# Altium integrated library LT Power Mgt DC-DC Converter.IntLib: 19 symbols
Pins are listed as number, name and electrical type; pins without a type are passive.

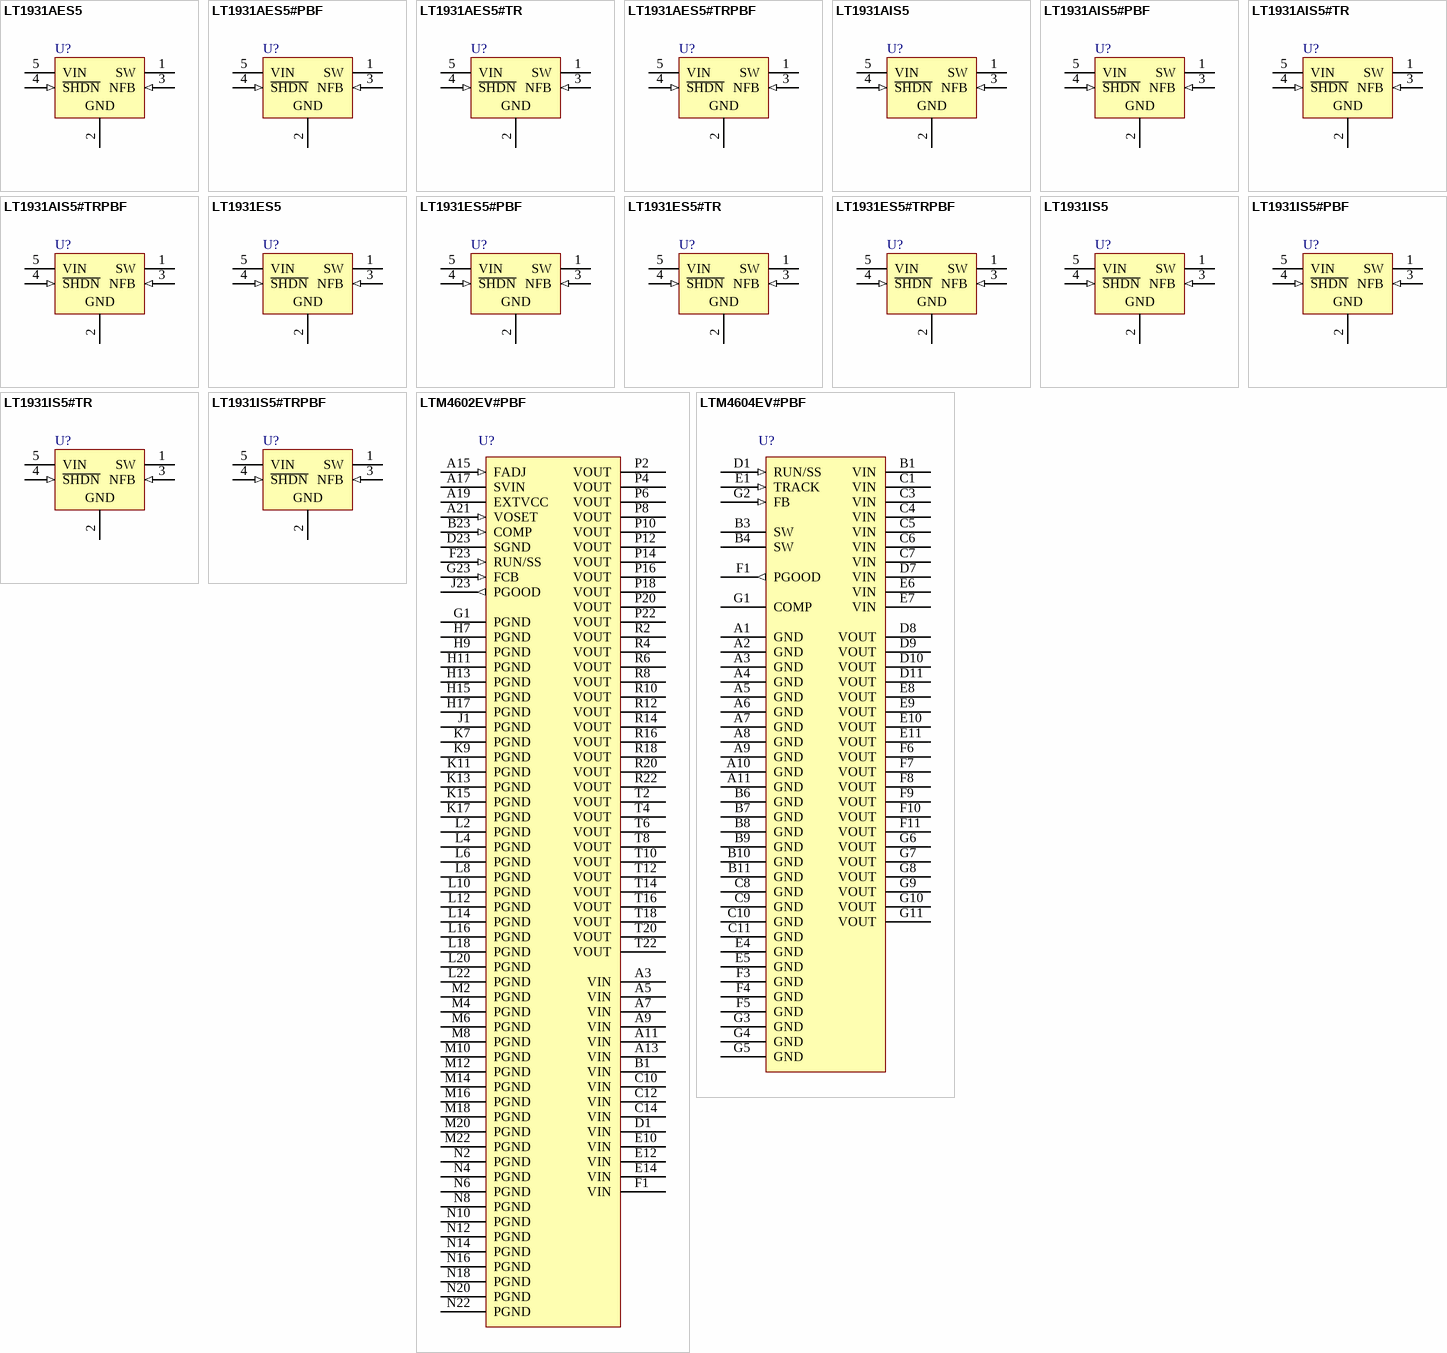
[diagram p0: symbols LT1931AES5 to LTM4604EV#PBF]

## LT1931AES5
designator U?
2.2MHz Inverting Current Mode DC/DC Converter; Note: 1639; Published: 6-Jun-2005; LatestRevisionDate: 29-May-2009; LatestRevisionNote: IPC-7351 Footprint Added.; DatasheetVersion: Jun-2001; PackageVersion: 2005; PackageReference: S5-T; Publisher: Altium Limited; PackageDescription: 5-Pin SOT-23 Package 0.95 mm Pitch, 2.8 mm Lead Span; Code_IPC: SOT23-5; ComponentLink1Description: Manufacturer Link; ComponentLink1URL: http://www.linear.com/; ComponentLink2Description: Datasheet; ComponentLink2URL: http://www.linear.com/pc/downloadDocument.do?navId=H0,C1,C1003,C1042,P1863,D3921
footprint S5-T_N (SOT23, 5-Leads, Body 3x1.6mm, Pitch 0.95mm, Lead Span 2.8mm, IPC Medium Density)
footprint S5-T_L (SOT23, 5-Leads, Body 3x1.6mm, Pitch 0.95mm, Lead Span 2.8mm, IPC High Density)
footprint S5-T_M (SOT23, 5-Leads, Body 3x1.6mm, Pitch 0.95mm, Lead Span 2.8mm, IPC Low Density)
pins: 1 SW "Switch", 2 GND (power) "Ground", 3 NFB (in) "Feedback", 4 ~{SHDN} (in) "Shutdown", 5 VIN (power) "Input Supply"

## LT1931AES5#PBF
designator U?
2.2MHz Inverting Current Mode DC/DC Converter; Note: 1641; Published: 6-Jun-2005; LatestRevisionDate: 29-May-2009; LatestRevisionNote: IPC-7351 Footprint Added.; DatasheetVersion: Jun-2001; PackageVersion: 2005; PackageReference: S5-T; Publisher: Altium Limited; PackageDescription: 5-Pin SOT-23 Package 0.95 mm Pitch, 2.8 mm Lead Span; Code_IPC: SOT23-5; ComponentLink1Description: Manufacturer Link; ComponentLink1URL: http://www.linear.com/; ComponentLink2Description: Datasheet; ComponentLink2URL: http://www.linear.com/pc/downloadDocument.do?navId=H0,C1,C1003,C1042,P1863,D3921
footprint S5-T_N (SOT23, 5-Leads, Body 3x1.6mm, Pitch 0.95mm, Lead Span 2.8mm, IPC Medium Density)
footprint S5-T_L (SOT23, 5-Leads, Body 3x1.6mm, Pitch 0.95mm, Lead Span 2.8mm, IPC High Density)
footprint S5-T_M (SOT23, 5-Leads, Body 3x1.6mm, Pitch 0.95mm, Lead Span 2.8mm, IPC Low Density)
pins: 1 SW "Switch", 2 GND (power) "Ground", 3 NFB (in) "Feedback", 4 ~{SHDN} (in) "Shutdown", 5 VIN (power) "Input Supply"

## LT1931AES5#TR
designator U?
2.2MHz Inverting Current Mode DC/DC Converter; Note: 1640; Published: 6-Jun-2005; LatestRevisionDate: 29-May-2009; LatestRevisionNote: IPC-7351 Footprint Added.; DatasheetVersion: Jun-2001; PackageVersion: 2005; PackageReference: S5-T; Publisher: Altium Limited; PackageDescription: 5-Pin SOT-23 Package 0.95 mm Pitch, 2.8 mm Lead Span; Code_IPC: SOT23-5; ComponentLink1Description: Manufacturer Link; ComponentLink1URL: http://www.linear.com/; ComponentLink2Description: Datasheet; ComponentLink2URL: http://www.linear.com/pc/downloadDocument.do?navId=H0,C1,C1003,C1042,P1863,D3921
footprint S5-T_N (SOT23, 5-Leads, Body 3x1.6mm, Pitch 0.95mm, Lead Span 2.8mm, IPC Medium Density)
footprint S5-T_L (SOT23, 5-Leads, Body 3x1.6mm, Pitch 0.95mm, Lead Span 2.8mm, IPC High Density)
footprint S5-T_M (SOT23, 5-Leads, Body 3x1.6mm, Pitch 0.95mm, Lead Span 2.8mm, IPC Low Density)
pins: 1 SW "Switch", 2 GND (power) "Ground", 3 NFB (in) "Feedback", 4 ~{SHDN} (in) "Shutdown", 5 VIN (power) "Input Supply"

## LT1931AES5#TRPBF
designator U?
2.2MHz Inverting Current Mode DC/DC Converter; Note: 1642; Published: 6-Jun-2005; LatestRevisionDate: 29-May-2009; LatestRevisionNote: IPC-7351 Footprint Added.; DatasheetVersion: Jun-2001; PackageVersion: 2005; PackageReference: S5-T; Publisher: Altium Limited; PackageDescription: 5-Pin SOT-23 Package 0.95 mm Pitch, 2.8 mm Lead Span; Code_IPC: SOT23-5; ComponentLink1Description: Manufacturer Link; ComponentLink1URL: http://www.linear.com/; ComponentLink2Description: Datasheet; ComponentLink2URL: http://www.linear.com/pc/downloadDocument.do?navId=H0,C1,C1003,C1042,P1863,D3921
footprint S5-T_N (SOT23, 5-Leads, Body 3x1.6mm, Pitch 0.95mm, Lead Span 2.8mm, IPC Medium Density)
footprint S5-T_L (SOT23, 5-Leads, Body 3x1.6mm, Pitch 0.95mm, Lead Span 2.8mm, IPC High Density)
footprint S5-T_M (SOT23, 5-Leads, Body 3x1.6mm, Pitch 0.95mm, Lead Span 2.8mm, IPC Low Density)
pins: 1 SW "Switch", 2 GND (power) "Ground", 3 NFB (in) "Feedback", 4 ~{SHDN} (in) "Shutdown", 5 VIN (power) "Input Supply"

## LT1931AIS5
designator U?
2.2MHz Inverting Current Mode DC/DC Converter; Note: 1643; Published: 6-Jun-2005; LatestRevisionDate: 29-May-2009; LatestRevisionNote: IPC-7351 Footprint Added.; DatasheetVersion: Jun-2001; PackageVersion: 2005; PackageReference: S5-T; Publisher: Altium Limited; PackageDescription: 5-Pin SOT-23 Package 0.95 mm Pitch, 2.8 mm Lead Span; Code_IPC: SOT23-5; ComponentLink1Description: Manufacturer Link; ComponentLink1URL: http://www.linear.com/; ComponentLink2Description: Datasheet; ComponentLink2URL: http://www.linear.com/pc/downloadDocument.do?navId=H0,C1,C1003,C1042,P1863,D3921
footprint S5-T_N (SOT23, 5-Leads, Body 3x1.6mm, Pitch 0.95mm, Lead Span 2.8mm, IPC Medium Density)
footprint S5-T_L (SOT23, 5-Leads, Body 3x1.6mm, Pitch 0.95mm, Lead Span 2.8mm, IPC High Density)
footprint S5-T_M (SOT23, 5-Leads, Body 3x1.6mm, Pitch 0.95mm, Lead Span 2.8mm, IPC Low Density)
pins: 1 SW "Switch", 2 GND (power) "Ground", 3 NFB (in) "Feedback", 4 ~{SHDN} (in) "Shutdown", 5 VIN (power) "Input Supply"

## LT1931AIS5#PBF
designator U?
2.2MHz Inverting Current Mode DC/DC Converter; Note: 1645; Published: 6-Jun-2005; LatestRevisionDate: 29-May-2009; LatestRevisionNote: IPC-7351 Footprint Added.; DatasheetVersion: Jun-2001; PackageVersion: 2005; PackageReference: S5-T; Publisher: Altium Limited; PackageDescription: 5-Pin SOT-23 Package 0.95 mm Pitch, 2.8 mm Lead Span; Code_IPC: SOT23-5; ComponentLink1Description: Manufacturer Link; ComponentLink1URL: http://www.linear.com/; ComponentLink2Description: Datasheet; ComponentLink2URL: http://www.linear.com/pc/downloadDocument.do?navId=H0,C1,C1003,C1042,P1863,D3921
footprint S5-T_N (SOT23, 5-Leads, Body 3x1.6mm, Pitch 0.95mm, Lead Span 2.8mm, IPC Medium Density)
footprint S5-T_L (SOT23, 5-Leads, Body 3x1.6mm, Pitch 0.95mm, Lead Span 2.8mm, IPC High Density)
footprint S5-T_M (SOT23, 5-Leads, Body 3x1.6mm, Pitch 0.95mm, Lead Span 2.8mm, IPC Low Density)
pins: 1 SW "Switch", 2 GND (power) "Ground", 3 NFB (in) "Feedback", 4 ~{SHDN} (in) "Shutdown", 5 VIN (power) "Input Supply"

## LT1931AIS5#TR
designator U?
2.2MHz Inverting Current Mode DC/DC Converter; Note: 1644; Published: 6-Jun-2005; LatestRevisionDate: 29-May-2009; LatestRevisionNote: IPC-7351 Footprint Added.; DatasheetVersion: Jun-2001; PackageVersion: 2005; PackageReference: S5-T; Publisher: Altium Limited; PackageDescription: 5-Pin SOT-23 Package 0.95 mm Pitch, 2.8 mm Lead Span; Code_IPC: SOT23-5; ComponentLink1Description: Manufacturer Link; ComponentLink1URL: http://www.linear.com/; ComponentLink2Description: Datasheet; ComponentLink2URL: http://www.linear.com/pc/downloadDocument.do?navId=H0,C1,C1003,C1042,P1863,D3921
footprint S5-T_N (SOT23, 5-Leads, Body 3x1.6mm, Pitch 0.95mm, Lead Span 2.8mm, IPC Medium Density)
footprint S5-T_L (SOT23, 5-Leads, Body 3x1.6mm, Pitch 0.95mm, Lead Span 2.8mm, IPC High Density)
footprint S5-T_M (SOT23, 5-Leads, Body 3x1.6mm, Pitch 0.95mm, Lead Span 2.8mm, IPC Low Density)
pins: 1 SW "Switch", 2 GND (power) "Ground", 3 NFB (in) "Feedback", 4 ~{SHDN} (in) "Shutdown", 5 VIN (power) "Input Supply"

## LT1931AIS5#TRPBF
designator U?
2.2MHz Inverting Current Mode DC/DC Converter; Note: 1646; Published: 6-Jun-2005; LatestRevisionDate: 29-May-2009; LatestRevisionNote: IPC-7351 Footprint Added.; DatasheetVersion: Jun-2001; PackageVersion: 2005; PackageReference: S5-T; Publisher: Altium Limited; PackageDescription: 5-Pin SOT-23 Package 0.95 mm Pitch, 2.8 mm Lead Span; Code_IPC: SOT23-5; ComponentLink1Description: Manufacturer Link; ComponentLink1URL: http://www.linear.com/; ComponentLink2Description: Datasheet; ComponentLink2URL: http://www.linear.com/pc/downloadDocument.do?navId=H0,C1,C1003,C1042,P1863,D3921
footprint S5-T_N (SOT23, 5-Leads, Body 3x1.6mm, Pitch 0.95mm, Lead Span 2.8mm, IPC Medium Density)
footprint S5-T_L (SOT23, 5-Leads, Body 3x1.6mm, Pitch 0.95mm, Lead Span 2.8mm, IPC High Density)
footprint S5-T_M (SOT23, 5-Leads, Body 3x1.6mm, Pitch 0.95mm, Lead Span 2.8mm, IPC Low Density)
pins: 1 SW "Switch", 2 GND (power) "Ground", 3 NFB (in) "Feedback", 4 ~{SHDN} (in) "Shutdown", 5 VIN (power) "Input Supply"

## LT1931ES5
designator U?
1.2MHz Inverting Current Mode DC/DC Converter; Note: 1631; Published: 6-Jun-2005; LatestRevisionDate: 29-May-2009; LatestRevisionNote: IPC-7351 Footprint Added.; DatasheetVersion: Jun-2001; PackageVersion: 2005; PackageReference: S5-T; Publisher: Altium Limited; PackageDescription: 5-Pin SOT-23 Package 0.95 mm Pitch, 2.8 mm Lead Span; Code_IPC: SOT23-5; ComponentLink1Description: Manufacturer Link; ComponentLink1URL: http://www.linear.com/; ComponentLink2Description: Datasheet; ComponentLink2URL: http://www.linear.com/pc/downloadDocument.do?navId=H0,C1,C1003,C1042,P1863,D3921
footprint S5-T_N (SOT23, 5-Leads, Body 3x1.6mm, Pitch 0.95mm, Lead Span 2.8mm, IPC Medium Density)
footprint S5-T_L (SOT23, 5-Leads, Body 3x1.6mm, Pitch 0.95mm, Lead Span 2.8mm, IPC High Density)
footprint S5-T_M (SOT23, 5-Leads, Body 3x1.6mm, Pitch 0.95mm, Lead Span 2.8mm, IPC Low Density)
pins: 1 SW "Switch", 2 GND (power) "Ground", 3 NFB (in) "Feedback", 4 ~{SHDN} (in) "Shutdown", 5 VIN (power) "Input Supply"

## LT1931ES5#PBF
designator U?
1.2MHz Inverting Current Mode DC/DC Converter; Note: 1633; Published: 6-Jun-2005; LatestRevisionDate: 29-May-2009; LatestRevisionNote: IPC-7351 Footprint Added.; DatasheetVersion: Jun-2001; PackageVersion: 2005; PackageReference: S5-T; Publisher: Altium Limited; PackageDescription: 5-Pin SOT-23 Package 0.95 mm Pitch, 2.8 mm Lead Span; Code_IPC: SOT23-5; ComponentLink1Description: Manufacturer Link; ComponentLink1URL: http://www.linear.com/; ComponentLink2Description: Datasheet; ComponentLink2URL: http://www.linear.com/pc/downloadDocument.do?navId=H0,C1,C1003,C1042,P1863,D3921
footprint S5-T_N (SOT23, 5-Leads, Body 3x1.6mm, Pitch 0.95mm, Lead Span 2.8mm, IPC Medium Density)
footprint S5-T_L (SOT23, 5-Leads, Body 3x1.6mm, Pitch 0.95mm, Lead Span 2.8mm, IPC High Density)
footprint S5-T_M (SOT23, 5-Leads, Body 3x1.6mm, Pitch 0.95mm, Lead Span 2.8mm, IPC Low Density)
pins: 1 SW "Switch", 2 GND (power) "Ground", 3 NFB (in) "Feedback", 4 ~{SHDN} (in) "Shutdown", 5 VIN (power) "Input Supply"

## LT1931ES5#TR
designator U?
1.2MHz Inverting Current Mode DC/DC Converter; Note: 1632; Published: 6-Jun-2005; LatestRevisionDate: 29-May-2009; LatestRevisionNote: IPC-7351 Footprint Added.; DatasheetVersion: Jun-2001; PackageVersion: 2005; PackageReference: S5-T; Publisher: Altium Limited; PackageDescription: 5-Pin SOT-23 Package 0.95 mm Pitch, 2.8 mm Lead Span; Code_IPC: SOT23-5; ComponentLink1Description: Manufacturer Link; ComponentLink1URL: http://www.linear.com/; ComponentLink2Description: Datasheet; ComponentLink2URL: http://www.linear.com/pc/downloadDocument.do?navId=H0,C1,C1003,C1042,P1863,D3921
footprint S5-T_N (SOT23, 5-Leads, Body 3x1.6mm, Pitch 0.95mm, Lead Span 2.8mm, IPC Medium Density)
footprint S5-T_L (SOT23, 5-Leads, Body 3x1.6mm, Pitch 0.95mm, Lead Span 2.8mm, IPC High Density)
footprint S5-T_M (SOT23, 5-Leads, Body 3x1.6mm, Pitch 0.95mm, Lead Span 2.8mm, IPC Low Density)
pins: 1 SW "Switch", 2 GND (power) "Ground", 3 NFB (in) "Feedback", 4 ~{SHDN} (in) "Shutdown", 5 VIN (power) "Input Supply"

## LT1931ES5#TRPBF
designator U?
1.2MHz Inverting Current Mode DC/DC Converter; Note: 1634; Published: 6-Jun-2005; LatestRevisionDate: 29-May-2009; LatestRevisionNote: IPC-7351 Footprint Added.; DatasheetVersion: Jun-2001; PackageVersion: 2005; PackageReference: S5-T; Publisher: Altium Limited; PackageDescription: 5-Pin SOT-23 Package 0.95 mm Pitch, 2.8 mm Lead Span; Code_IPC: SOT23-5; ComponentLink1Description: Manufacturer Link; ComponentLink1URL: http://www.linear.com/; ComponentLink2Description: Datasheet; ComponentLink2URL: http://www.linear.com/pc/downloadDocument.do?navId=H0,C1,C1003,C1042,P1863,D3921
footprint S5-T_N (SOT23, 5-Leads, Body 3x1.6mm, Pitch 0.95mm, Lead Span 2.8mm, IPC Medium Density)
footprint S5-T_L (SOT23, 5-Leads, Body 3x1.6mm, Pitch 0.95mm, Lead Span 2.8mm, IPC High Density)
footprint S5-T_M (SOT23, 5-Leads, Body 3x1.6mm, Pitch 0.95mm, Lead Span 2.8mm, IPC Low Density)
pins: 1 SW "Switch", 2 GND (power) "Ground", 3 NFB (in) "Feedback", 4 ~{SHDN} (in) "Shutdown", 5 VIN (power) "Input Supply"

## LT1931IS5
designator U?
1.2MHz Inverting Current Mode DC/DC Converter; Note: 1635; Published: 6-Jun-2005; LatestRevisionDate: 29-May-2009; LatestRevisionNote: IPC-7351 Footprint Added.; DatasheetVersion: Jun-2001; PackageVersion: 2005; PackageReference: S5-T; Publisher: Altium Limited; PackageDescription: 5-Pin SOT-23 Package 0.95 mm Pitch, 2.8 mm Lead Span; Code_IPC: SOT23-5; ComponentLink1Description: Manufacturer Link; ComponentLink1URL: http://www.linear.com/; ComponentLink2Description: Datasheet; ComponentLink2URL: http://www.linear.com/pc/downloadDocument.do?navId=H0,C1,C1003,C1042,P1863,D3921
footprint S5-T_N (SOT23, 5-Leads, Body 3x1.6mm, Pitch 0.95mm, Lead Span 2.8mm, IPC Medium Density)
footprint S5-T_L (SOT23, 5-Leads, Body 3x1.6mm, Pitch 0.95mm, Lead Span 2.8mm, IPC High Density)
footprint S5-T_M (SOT23, 5-Leads, Body 3x1.6mm, Pitch 0.95mm, Lead Span 2.8mm, IPC Low Density)
pins: 1 SW "Switch", 2 GND (power) "Ground", 3 NFB (in) "Feedback", 4 ~{SHDN} (in) "Shutdown", 5 VIN (power) "Input Supply"

## LT1931IS5#PBF
designator U?
1.2MHz Inverting Current Mode DC/DC Converter; Note: 1637; Published: 6-Jun-2005; LatestRevisionDate: 29-May-2009; LatestRevisionNote: IPC-7351 Footprint Added.; DatasheetVersion: Jun-2001; PackageVersion: 2005; PackageReference: S5-T; Publisher: Altium Limited; PackageDescription: 5-Pin SOT-23 Package 0.95 mm Pitch, 2.8 mm Lead Span; Code_IPC: SOT23-5; ComponentLink1Description: Manufacturer Link; ComponentLink1URL: http://www.linear.com/; ComponentLink2Description: Datasheet; ComponentLink2URL: http://www.linear.com/pc/downloadDocument.do?navId=H0,C1,C1003,C1042,P1863,D3921
footprint S5-T_N (SOT23, 5-Leads, Body 3x1.6mm, Pitch 0.95mm, Lead Span 2.8mm, IPC Medium Density)
footprint S5-T_L (SOT23, 5-Leads, Body 3x1.6mm, Pitch 0.95mm, Lead Span 2.8mm, IPC High Density)
footprint S5-T_M (SOT23, 5-Leads, Body 3x1.6mm, Pitch 0.95mm, Lead Span 2.8mm, IPC Low Density)
pins: 1 SW "Switch", 2 GND (power) "Ground", 3 NFB (in) "Feedback", 4 ~{SHDN} (in) "Shutdown", 5 VIN (power) "Input Supply"

## LT1931IS5#TR
designator U?
1.2MHz Inverting Current Mode DC/DC Converter; Note: 1636; Published: 6-Jun-2005; LatestRevisionDate: 29-May-2009; LatestRevisionNote: IPC-7351 Footprint Added.; DatasheetVersion: Jun-2001; PackageVersion: 2005; PackageReference: S5-T; Publisher: Altium Limited; PackageDescription: 5-Pin SOT-23 Package 0.95 mm Pitch, 2.8 mm Lead Span; Code_IPC: SOT23-5; ComponentLink1Description: Manufacturer Link; ComponentLink1URL: http://www.linear.com/; ComponentLink2Description: Datasheet; ComponentLink2URL: http://www.linear.com/pc/downloadDocument.do?navId=H0,C1,C1003,C1042,P1863,D3921
footprint S5-T_N (SOT23, 5-Leads, Body 3x1.6mm, Pitch 0.95mm, Lead Span 2.8mm, IPC Medium Density)
footprint S5-T_L (SOT23, 5-Leads, Body 3x1.6mm, Pitch 0.95mm, Lead Span 2.8mm, IPC High Density)
footprint S5-T_M (SOT23, 5-Leads, Body 3x1.6mm, Pitch 0.95mm, Lead Span 2.8mm, IPC Low Density)
pins: 1 SW "Switch", 2 GND (power) "Ground", 3 NFB (in) "Feedback", 4 ~{SHDN} (in) "Shutdown", 5 VIN (power) "Input Supply"

## LT1931IS5#TRPBF
designator U?
1.2MHz Inverting Current Mode DC/DC Converter; Note: 1638; Published: 6-Jun-2005; LatestRevisionDate: 29-May-2009; LatestRevisionNote: IPC-7351 Footprint Added.; DatasheetVersion: Jun-2001; PackageVersion: 2005; PackageReference: S5-T; Publisher: Altium Limited; PackageDescription: 5-Pin SOT-23 Package 0.95 mm Pitch, 2.8 mm Lead Span; Code_IPC: SOT23-5; ComponentLink1Description: Manufacturer Link; ComponentLink1URL: http://www.linear.com/; ComponentLink2Description: Datasheet; ComponentLink2URL: http://www.linear.com/pc/downloadDocument.do?navId=H0,C1,C1003,C1042,P1863,D3921
footprint S5-T_N (SOT23, 5-Leads, Body 3x1.6mm, Pitch 0.95mm, Lead Span 2.8mm, IPC Medium Density)
footprint S5-T_L (SOT23, 5-Leads, Body 3x1.6mm, Pitch 0.95mm, Lead Span 2.8mm, IPC High Density)
footprint S5-T_M (SOT23, 5-Leads, Body 3x1.6mm, Pitch 0.95mm, Lead Span 2.8mm, IPC Low Density)
pins: 1 SW "Switch", 2 GND (power) "Ground", 3 NFB (in) "Feedback", 4 ~{SHDN} (in) "Shutdown", 5 VIN (power) "Input Supply"

## LTM4602EV#PBF
designator U?
6A High Efficiency DC/DC µModule; Note: 1913; Published: 30-May-2008; DatasheetVersion: Aug-2007; PackageVersion: Mar-2006; PackageReference: LGA104; Publisher: Altium Limited; PackageDescription: 104-Pin LGA, 15 x 15 x 2.9 mm Body, 1.27 mm Pitch (LGA104); Code_JEDEC: MO-222; ComponentLink1Description: Manufacturer Link; ComponentLink1URL: http://www.linear.com/; ComponentLink2Description: Datasheet; ComponentLink2URL: http://www.linear.com/pc/downloadDocument.do?navId=H0,C1,C1003,C1424,P32715,D18139
footprint LGA104 (QFN, 104-Leads, Body 15x15mm, Pitch 1.27mm, Linear Technology Recommended)
pins: A3 VIN (power), A5 VIN (power), A7 VIN (power), A9 VIN (power), A11 VIN (power), A13 VIN (power), A15 FADJ (in), A17 SVIN (power), A19 EXTVCC (power), A21 VOSET (in), B1 VIN (power), B23 COMP (in), C10 VIN (power), C12 VIN (power), C14 VIN (power), D1 VIN (power), D23 SGND (power), E10 VIN (power), E12 VIN (power), E14 VIN (power), F1 VIN (power), F23 RUN/SS (in), G1 PGND (power), G23 FCB (in), H7 PGND (power), H9 PGND (power), H11 PGND (power), H13 PGND (power), H15 PGND (power), H17 PGND (power), J1 PGND (power), J23 PGOOD (out), K7 PGND (power), K9 PGND (power), K11 PGND (power), K13 PGND (power), K15 PGND (power), K17 PGND (power), L2 PGND (power), L4 PGND (power), L6 PGND (power), L8 PGND (power), L10 PGND (power), L12 PGND (power), L14 PGND (power), L16 PGND (power), L18 PGND (power), L20 PGND (power), L22 PGND (power), M2 PGND (power), M4 PGND (power), M6 PGND (power), M8 PGND (power), M10 PGND (power), M12 PGND (power), M14 PGND (power), M16 PGND (power), M18 PGND (power), M20 PGND (power), M22 PGND (power), N2 PGND (power), N4 PGND (power), N6 PGND (power), N8 PGND (power), N10 PGND (power), N12 PGND (power), N14 PGND (power), N16 PGND (power), N18 PGND (power), N20 PGND (power), N22 PGND (power), P2 VOUT (power), P4 VOUT (power), P6 VOUT (power), P8 VOUT (power), P10 VOUT (power), P12 VOUT (power), P14 VOUT (power), P16 VOUT (power), P18 VOUT (power), P20 VOUT (power), P22 VOUT (power), R2 VOUT (power), R4 VOUT (power), R6 VOUT (power), R8 VOUT (power), R10 VOUT (power), R12 VOUT (power), R14 VOUT (power), R16 VOUT (power), R18 VOUT (power), R20 VOUT (power), R22 VOUT (power), T2 VOUT (power), T4 VOUT (power), T6 VOUT (power), T8 VOUT (power), T10 VOUT (power), T12 VOUT (power), T14 VOUT (power), T16 VOUT (power), T18 VOUT (power), T20 VOUT (power), T22 VOUT (power)

## LTM4604EV#PBF
designator U?
Low Voltage, 4A DC/DC µModule with Tracking; Note: 1919; Published: 30-May-2008; DatasheetVersion: Aug-2007; PackageVersion: Rev A, Jun-2007; PackageReference: LGA66; Publisher: Altium Limited; PackageDescription: 66-Pin LGA, 15 x 9 x 2.4 mm Body, 1.27 mm Pitch (LGA66); Code_JEDEC: MO-222; ComponentLink1Description: Manufacturer Link; ComponentLink1URL: http://www.linear.com/; ComponentLink2Description: Datasheet; ComponentLink2URL: http://www.linear.com/pc/downloadDocument.do?navId=H0,C1,C1003,C1042,C1424,P37470,D25201
footprint LGA66 (QFN, 66-Leads, Body 15x9mm, Pitch 1.27mm, Linear Technology Recommended)
pins: A1 GND (power) "Power Ground", A2 GND (power) "Power Ground", A3 GND (power) "Power Ground", A4 GND (power) "Power Ground", A5 GND (power) "Power Ground", A6 GND (power) "Power Ground", A7 GND (power) "Power Ground", A8 GND (power) "Power Ground", A9 GND (power) "Power Ground", A10 GND (power) "Power Ground", A11 GND (power) "Power Ground", B1 VIN (power) "Power Input", B3 SW "Switching Node", B4 SW "Switching Node", B6 GND (power) "Power Ground", B7 GND (power) "Power Ground", B8 GND (power) "Power Ground", B9 GND (power) "Power Ground", B10 GND (power) "Power Ground", B11 GND (power) "Power Ground", C1 VIN (power) "Power Input", C3 VIN (power) "Power Input", C4 VIN (power) "Power Input", C5 VIN (power) "Power Input", C6 VIN (power) "Power Input", C7 VIN (power) "Power Input", C8 GND (power) "Power Ground", C9 GND (power) "Power Ground", C10 GND (power) "Power Ground", C11 GND (power) "Power Ground", D1 RUN/SS (in) "Run Control and Soft-Start", D7 VIN (power) "Power Input", D8 VOUT (power) "Power Output", D9 VOUT (power) "Power Output", D10 VOUT (power) "Power Output", D11 VOUT (power) "Power Output", E1 TRACK (in) "Output Voltage Tracking", E4 GND (power) "Power Ground", E5 GND (power) "Power Ground", E6 VIN (power) "Power Input", E7 VIN (power) "Power Input", E8 VOUT (power) "Power Output", E9 VOUT (power) "Power Output", E10 VOUT (power) "Power Output", E11 VOUT (power) "Power Output", F1 PGOOD (out) "Output Voltage Power Good Indicator", F3 GND (power) "Power Ground", F4 GND (power) "Power Ground", F5 GND (power) "Power Ground", F6 VOUT (power) "Power Output", F7 VOUT (power) "Power Output", F8 VOUT (power) "Power Output", F9 VOUT (power) "Power Output", F10 VOUT (power) "Power Output", F11 VOUT (power) "Power Output", G1 COMP "Current Control Threshold and Error Amplifier Compensation Point", G2 FB (in) "Negative Input of the Error Amplifier", G3 GND (power) "Power Ground", G4 GND (power) "Power Ground", G5 GND (power) "Power Ground", G6 VOUT (power) "Power Output", G7 VOUT (power) "Power Output", G8 VOUT (power) "Power Output", G9 VOUT (power) "Power Output", G10 VOUT (power) "Power Output", G11 VOUT (power) "Power Output"

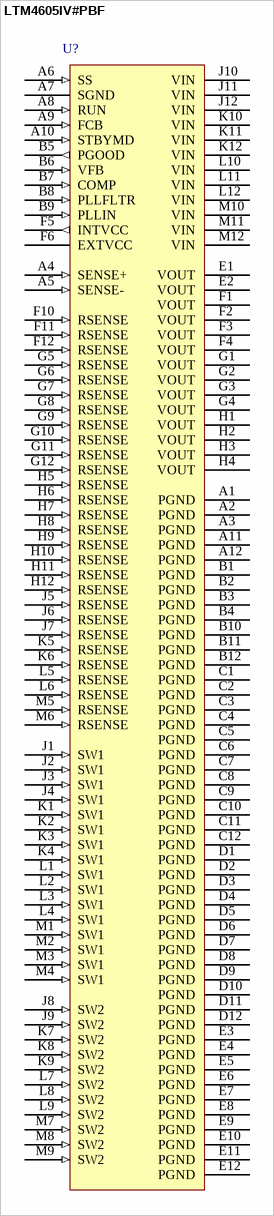
[diagram p1: symbol LTM4605IV#PBF]

## LTM4605IV#PBF
designator U?
High Efficiency Buck-Boost DC/DC µModule; Note: 1914; Published: 30-May-2008; DatasheetVersion: Jan-2008; PackageVersion: Rev A, Oct-2007; PackageReference: LGA141; Publisher: Altium Limited; PackageDescription: 141-Pin LGA, 15 x 15 x 2.9 mm Body, 1.27 mm Pitch (LGA141); Code_JEDEC: MO-222; ComponentLink1Description: Manufacturer Link; ComponentLink1URL: http://www.linear.com/; ComponentLink2Description: Datasheet; ComponentLink2URL: http://www.linear.com/pc/downloadDocument.do?navId=H0,C1,C1003,C1042,C1424,P39304,D25642
footprint LGA141 (QFN, 141-Leads, Body 15x15mm, Pitch 1.27mm, Linear Technology Recommended)
pins: A1 PGND (power), A2 PGND (power), A3 PGND (power), A4 SENSE+ (in), A5 SENSE- (in), A6 SS (in), A7 SGND (power), A8 RUN (in), A9 FCB (in), A10 STBYMD (in), A11 PGND (power), A12 PGND (power), B1 PGND (power), B2 PGND (power), B3 PGND (power), B4 PGND (power), B5 PGOOD (out), B6 VFB (in), B7 COMP (in), B8 PLLFLTR (in), B9 PLLIN (in), B10 PGND (power), B11 PGND (power), B12 PGND (power), C1 PGND (power), C2 PGND (power), C3 PGND (power), C4 PGND (power), C5 PGND (power), C6 PGND (power), C7 PGND (power), C8 PGND (power), C9 PGND (power), C10 PGND (power), C11 PGND (power), C12 PGND (power), D1 PGND (power), D2 PGND (power), D3 PGND (power), D4 PGND (power), D5 PGND (power), D6 PGND (power), D7 PGND (power), D8 PGND (power), D9 PGND (power), D10 PGND (power), D11 PGND (power), D12 PGND (power), E1 VOUT (power), E2 VOUT (power), E3 PGND (power), E4 PGND (power), E5 PGND (power), E6 PGND (power), E7 PGND (power), E8 PGND (power), E9 PGND (power), E10 PGND (power), E11 PGND (power), E12 PGND (power), F1 VOUT (power), F2 VOUT (power), F3 VOUT (power), F4 VOUT (power), F5 INTVCC (out), F6 EXTVCC (power), F10 RSENSE (in), F11 RSENSE (in), F12 RSENSE (in), G1 VOUT (power), G2 VOUT (power), G3 VOUT (power), G4 VOUT (power), G5 RSENSE (in), G6 RSENSE (in), G7 RSENSE (in), G8 RSENSE (in), G9 RSENSE (in), G10 RSENSE (in), G11 RSENSE (in), G12 RSENSE (in), H1 VOUT (power), H2 VOUT (power), H3 VOUT (power), H4 VOUT (power), H5 RSENSE (in), H6 RSENSE (in), H7 RSENSE (in), H8 RSENSE (in), H9 RSENSE (in), H10 RSENSE (in), H11 RSENSE (in), H12 RSENSE (in), J1 SW1 (in), J2 SW1 (in), J3 SW1 (in), J4 SW1 (in), J5 RSENSE (in), J6 RSENSE (in), J7 RSENSE (in), J8 SW2 (in), J9 SW2 (in), J10 VIN (power), J11 VIN (power), J12 VIN (power), K1 SW1 (in), K2 SW1 (in), K3 SW1 (in), K4 SW1 (in), K5 RSENSE (in), K6 RSENSE (in), K7 SW2 (in), K8 SW2 (in), K9 SW2 (in), K10 VIN (power), K11 VIN (power), K12 VIN (power), L1 SW1 (in), L2 SW1 (in), L3 SW1 (in), L4 SW1 (in), L5 RSENSE (in), L6 RSENSE (in), L7 SW2 (in), L8 SW2 (in), L9 SW2 (in), L10 VIN (power), L11 VIN (power), L12 VIN (power), M1 SW1 (in), M2 SW1 (in), M3 SW1 (in), M4 SW1 (in), M5 RSENSE (in), M6 RSENSE (in), M7 SW2 (in), M8 SW2 (in), M9 SW2 (in), M10 VIN (power), M11 VIN (power), M12 VIN (power)